# EAGLE library part TPS7A4001 (library PIEZO_LBR)
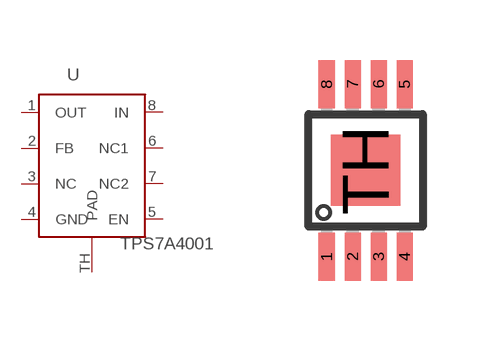
[diagram p1: symbol with the pads of S-PDSO-G08; footprint S-PDSO-G08]

Designator prefix -

## TPS7A4001  [S-PDSO-G08]
1  OUT  in
2  FB  pas
3  NC  in
4  GND  pwr
5  EN  in
6  NC1  out
7  NC2  in
8  IN  in
TH  PAD

## Footprint S-PDSO-G08 (pad centres in mm)
smd 0.4 x 1.2: 1 -0.975,-2.157; 2 -0.325,-2.157; 3 0.325,-2.157; 4 0.975,-2.157; 5 0.975,2.157; 6 0.325,2.157; 7 -0.325,2.157; 8 -0.975,2.157
smd 1.73 x 1.78: TH 0,0